# Altium schematic symbol library Connectors.SchLib: 29 symbols
Pins are listed as number, name and electrical type; pins without a type are passive.

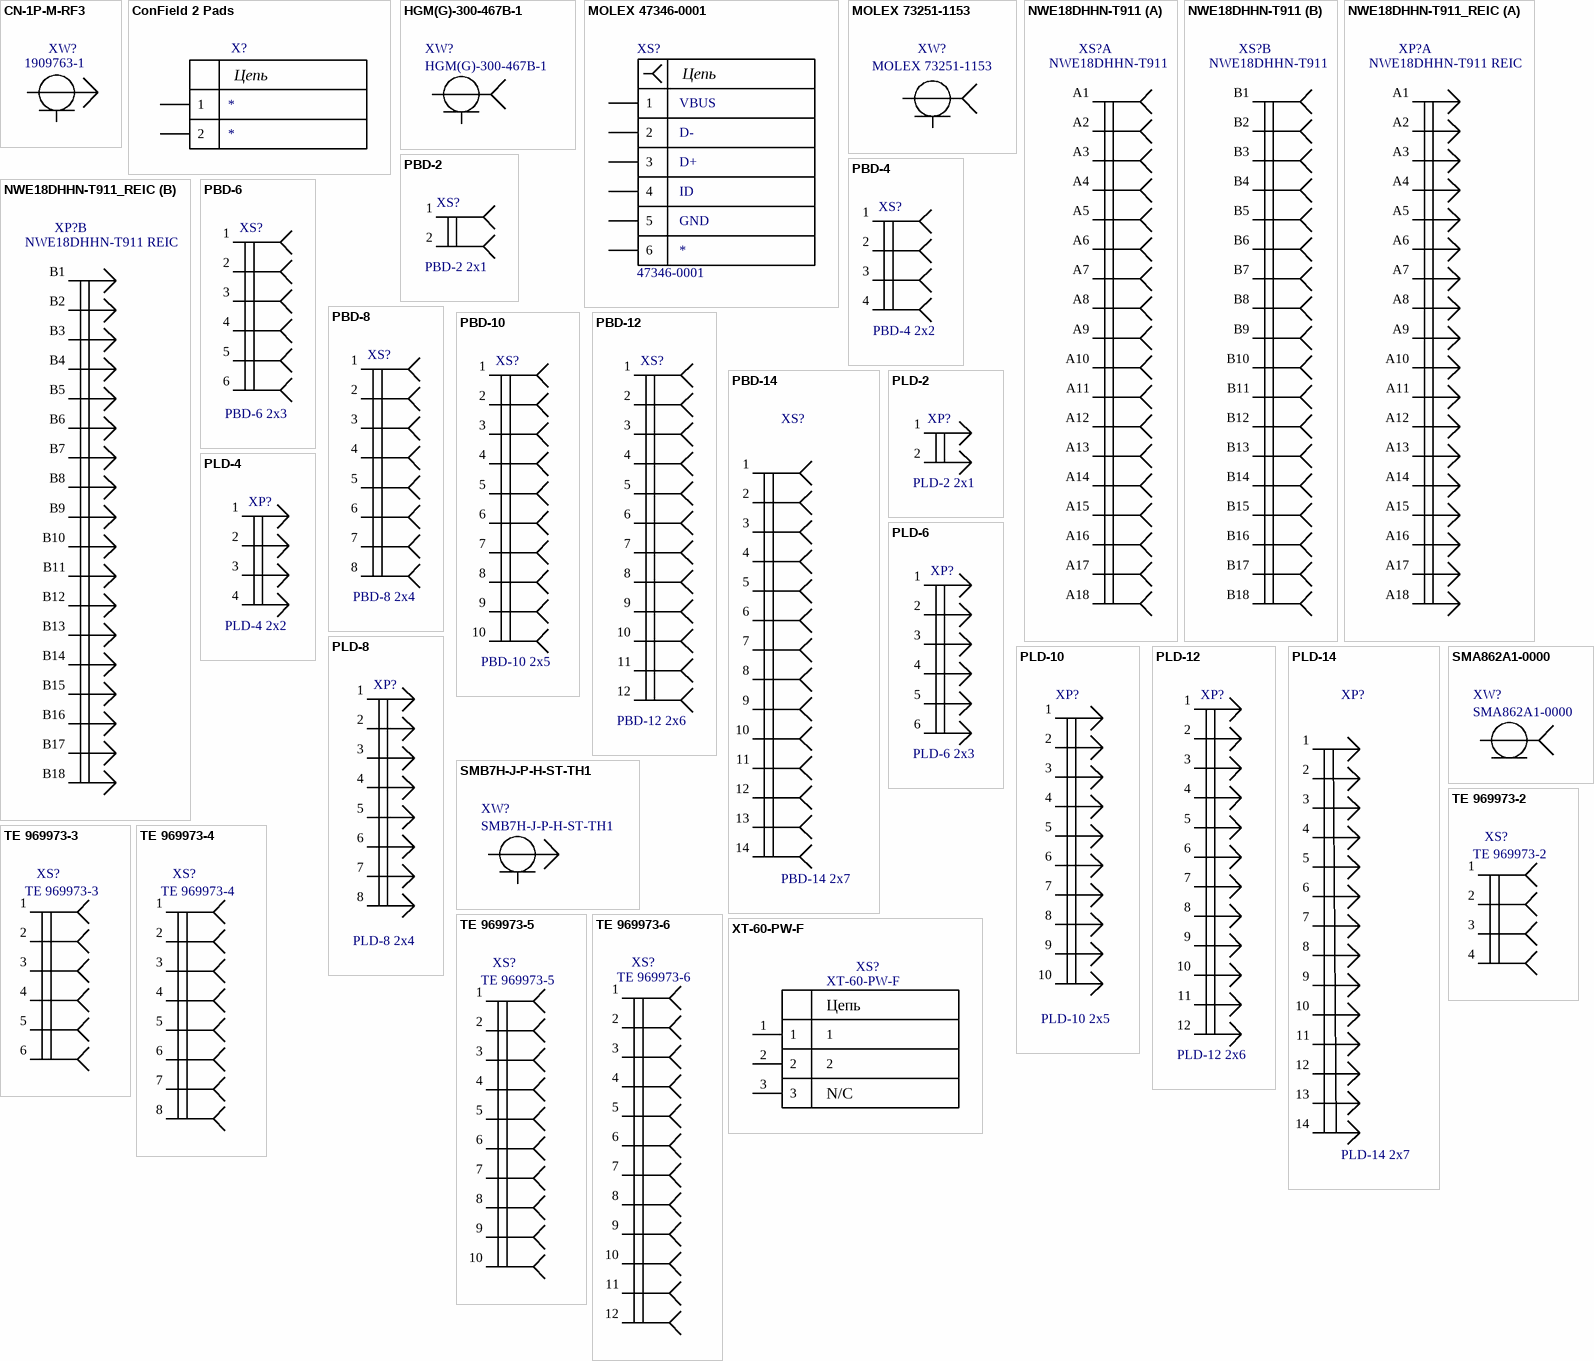
[diagram p0: symbols CN-1P-M-RF3 to XT-60-PW-F]

## CN-1P-M-RF3
designator XW?, comment 1909763-1
Ultra Miniature Coaxial Connector Jack, 60 V, 50 Ohm, -40 to 90 degC, RoHS, Tape and Reel; Manufacturer: TE Connectivity; Gender: Female; PCB Mounting Orientation: Vertical; Body Material: LiquidCrystalPolymer; Case\/Package: SMD/SMT; Impedance: 50Ohm; Max Frequency: 6GHz; Body Plating: Gold; Dielectric Material: Polymer; Orientation: Straight; Mount: SurfaceMount; Length: 3mm; Packaging: TapeandReel; Connector Type: Jack; Lead Free: LeadFree; Package Quantity: 1; Termination: SMD/SMT; Contact Material: CopperAlloy; Fastening Type: Pull; RoHSCompliant: true; Max Operating Temperature: 90degC; Datasheet URL: http://www.te.com/commerce/DocumentDelivery/DDEController?Action=srchrtrv&DocNm=1909763&DocType=Customer+Drawing&DocLang=English; Contact Plating: Gold; Mounting Technology: SurfaceMount; Package Reference: TECO-1909763-1; Insulation Material: Thermoplastic; Min Operating Temperature: -40degC; Manufacturer URL: http://www.te.com/; ELV: Compliant; Datasheet Version: Rev. B2, 11/2015; Radiation Hardening: No; Package Description: 3-Pin Surface Mount Device, Body 2.6 x 2.6 mm; Housing Colour: Beige; Supplier 1: Digi-Key; Supplier Part Number 1: A118077CT-ND; PartNumber: 1909763-1
footprint TECO-1909763-1_V (SMD, 3-Leads, Body 2.6x2.6mm, Height 1.25mm)
pins: 1, 2

## ConField 2 Pads
designator X?  (no BOM)
Contact Field 2 Pads; Net2: *; Net1: *
footprint ConField 2 Pads L1000W300G200 (Contact Field 2 Pads 10mm x 3 mm gap 2 mm)
pins: 1, 2
text: Цепь

## HGM(G)-300-467B-1
designator XW?
Hirose edge SMA 2.92 Press; PartNumber: HGM(G)-300-467B-1
footprint HGM(G)-300-467B-1 (Hirose edge SMA 2.92 Press)
pins: 1, 2

## MOLEX 47346-0001
designator XS?, comment 47346-0001  Net_GND: GND  Net_ID: ID  Net_D+: D+  Net_D-: D-  Net_VBUS: VBUS
Micro-USB B Receptacle with Flange, Bottom Mount, Surface Mount, Lead-Free; Manufacturer: Molex; PartNumber: 47346-0001; ComponentLink1Description: Product Page; ComponentLink1URL: https://www.molex.com/molex/products/part-detail/io_connectors/0473460001; Net_Shield: *
footprint MOLEX 47346-0001 (Molex USB - micro B USB 2.0 Receptacle Connector 5 Position Surface Mount, Right Angle)
pins: 1, 2, 3, 4, 5, SH 6
text: Цепь

## MOLEX 73251-1153
designator XW?
MOLEX 73251-1153 (SMA EDGE); PartNumber: MOLEX 73251-1153; Manufacturer: Molex
footprint MOLEX 73251-1153 (MOLEX 50 Ohms, SMA Jack Receptacle, Edge Mount, .25µm Gold (Au) Plating)
footprint MOLEX 73251-1153 - 0.45pin (MOLEX 50 Ohms, SMA Jack Receptacle, Edge Mount, .25µm Gold (Au) Plating)
footprint MOLEX 73251-1153 - 1.1pin (MOLEX 50 Ohms, SMA Jack Receptacle, Edge Mount, .25µm Gold (Au) Plating)
pins: 1, 2

## NWE18DHHN-T911
designator XS?
PCI EXPRESS, 1mm CC, DIP SOLDER; PartNumber: NWE18DHHN-T911
footprint NWE18DHHN-T911 (PCI-E Connemctor)
part A pins: A1, A2, A3, A4, A5, A6, A7, A8, A9, A10, A11, A12, A13, A14, A15, A16, A17, A18
part B pins: B1, B2, B3, B4, B5, B6, B7, B8, B9, B10, B11, B12, B13, B14, B15, B16, B17, B18

## NWE18DHHN-T911_REIC
designator XP?, comment NWE18DHHN-T911 REIC  (no BOM)
PCI EXPRESS, 1mm CC; PartNumber: NWE18DHHN-T911 REIC
footprint NWE18DHHN-T9_REIC (PCI Edge Connector Recep for NWE18DHHN-T921)
part A pins: A1, A2, A3, A4, A5, A6, A7, A8, A9, A10, A11, A12, A13, A14, A15, A16, A17, A18
part B pins: B1, B2, B3, B4, B5, B6, B7, B8, B9, B10, B11, B12, B13, B14, B15, B16, B17, B18

## PBD-2
designator XS?, comment PBD-2 2x1
Header, Vertical Receptacle, 2.54 mm pitch 2x1; PartNumber: PBD-2 2x1; Net2: *; Net1: *
footprint RHDRV2W45P254_1X2_304X500H500 (Header, Vertical Receptacle, 2.54 mm pitch; 0.45 mm lead width, 2 pins, 2 rows, 1 pin per row, 3.04 mm L X 5.00 mm W X 5.00 mm H body)
pins: 1, 2
1 alternate drawing of the same symbol

## PBD-4
designator XS?, comment PBD-4 2x2
Header, Vertical Receptacle, 2.54 mm pitch 2x2; PartNumber: PBD-4 2x2; Net1: *; Net2: *; Net3: *; Net4: *
footprint RHDRV4W45P254_2X2_558X500H500 (Header, Vertical Receptacle, 2.54 mm pitch; 0.45 mm lead width, 4 pins, 2 rows, 2 pins per row, 5.58 mm L X 5.00 mm W X 5.00 mm H body)
pins: 1, 2, 3, 4
1 alternate drawing of the same symbol

## PBD-6
designator XS?, comment PBD-6 2x3
Header, Vertical Receptacle, 2.54 mm pitch 2x3; PartNumber: PBD-6 2x3; Net1: *; Net2: *; Net3: *; Net4: *; Net5: *; Net6: *
footprint RHDRV6W45P254_3X2_812X500H500 (Header, Vertical Receptacle, 2.54 mm pitch; 0.45 mm lead width, 6 pins, 2 rows, 3 pins per row, 8.12 mm L X 5.00 mm W X 5.00 mm H body)
pins: 1, 2, 3, 4, 5, 6
1 alternate drawing of the same symbol

## PBD-8
designator XS?, comment PBD-8 2x4
Header, Vertical Receptacle, 2.54 mm pitch 2x4; PartNumber: PBD-8 2x4; Net1: *; Net2: *; Net3: *; Net4: *; Net5: *; Net6: *; Net7: *; Net8: *
footprint RHDRV8W45P254_4X2_1066X500H500 (Header, Vertical Receptacle, 2.54 mm pitch; 0.45 mm lead width, 8 pins, 2 rows, 4 pins per row, 10.66 mm L X 5.00 mm W X 5.00 mm H body)
pins: 1, 2, 3, 4, 5, 6, 7, 8
1 alternate drawing of the same symbol

## PBD-10
designator XS?, comment PBD-10 2x5
Header, Vertical Receptacle, 2.54 mm pitch 2x5; PartNumber: PBD-10 2x5; Net1: *; Net2: *; Net3: *; Net4: *; Net5: *; Net9: *; Net10: *; Net6: *; Net8: *; Net7: *
footprint RHDRV10W45P254_5X2_1320X500H500 (Header, Vertical Receptacle, 2.54 mm pitch; 0.45 mm lead width, 10 pins, 2 rows, 5 pins per row, 13.20 mm L X 5.00 mm W X 5.00 mm H body)
pins: 1, 2, 3, 4, 5, 6, 7, 8, 9, 10
1 alternate drawing of the same symbol

## PBD-12
designator XS?, comment PBD-12 2x6
Header, Vertical Receptacle, 2.54 mm pitch 2x6; PartNumber: PBD-12 2x6; Net1: *; Net2: *; Net3: *; Net4: *; Net5: *; Net6: *; Net7: *; Net8: *; Net9: *; Net10: *; Net11: *; Net12: *
footprint RHDRV12W45P254_6X2_1574X500H500 (Header, Vertical Receptacle, 2.54 mm pitch; 0.45 mm lead width, 12 pins, 2 rows, 6 pins per row, 15.74 mm L X 5.00 mm W X 5.00 mm H body)
pins: 1, 2, 3, 4, 5, 6, 7, 8, 9, 10, 11, 12
1 alternate drawing of the same symbol

## PBD-14
designator XS?, comment PBD-14 2x7
Header, Vertical Receptacle, 2.54 mm pitch 2x7; PartNumber: PBD-14 2x7; Net1: *; Net2: *; Net3: *; Net4: *; Net5: *; Net6: *; Net7: *; Net8: *; Net9: *; Net10: *; Net14: *; Net13: *; Net12: *; Net11: *
footprint RHDRV14W64P254_7X2_1778X508H884 (Header, Vertical Receptacle, 2.54 mm pitch; 0.64 mm lead width, 14 pins, 2 rows, 7 pins per row, 17.78 mm L X 5.08 mm W X 8.84 mm H body)
pins: 1, 2, 3, 4, 5, 6, 7, 8, 9, 10, 11, 12, 13, 14
1 alternate drawing of the same symbol

## PLD-2
designator XP?, comment PLD-2 2x1
Header, Vertical, Non-shrouded, 2.54 mm pitch 2x1; PartNumber: PLD-2 2x1; Net1: *; Net2: *
footprint HDRV2W64P254_1X2_254X508H884 (Header, Vertical, 2.54 mm pitch; 0.64 mm lead width, 2 pins, 2 rows, 1 pin per row, 2.54 mm L X 5.08 mm W X 8.84 mm H body)
pins: 1, 2
1 alternate drawing of the same symbol

## PLD-4
designator XP?, comment PLD-4 2x2
Header, Vertical, Non-shrouded, 2.54 mm pitch 2x2; PartNumber: PLD-4 2x2; Net1: *; Net2: *; Net3: *; Net4: *
footprint HDRV4W64P254_2X2_508X508H884 (Header, Vertical, 2.54 mm pitch; 0.64 mm lead width, 4 pins, 2 rows, 2 pins per row, 5.08 mm L X 5.08 mm W X 8.84 mm H body)
pins: 1, 2, 3, 4
1 alternate drawing of the same symbol

## PLD-6
designator XP?, comment PLD-6 2x3
Header, Vertical, Non-shrouded, 2.54 mm pitch 2x3; PartNumber: PLD-6 2x3; Net1: *; Net2: *; Net3: *; Net4: *; Net5: *; Net6: *
footprint HDRV6W64P254_3X2_762X508H884 (Header, Vertical, 2.54 mm pitch; 0.64 mm lead width, 6 pins, 2 rows, 3 pins per row, 7.62 mm L X 5.08 mm W X 8.84 mm H body)
pins: 1, 2, 3, 4, 5, 6
1 alternate drawing of the same symbol

## PLD-8
designator XP?, comment PLD-8 2x4
Header, Vertical, Non-shrouded, 2.54 mm pitch 2x4; PartNumber: PLD-8 2x4; Net1: *; Net2: *; Net3: *; Net4: *; Net5: *; Net6: *; Net7: *; Net8: *
footprint HDRV8W64P254_4X2_1016X508H884 (Header, Vertical, 2.54 mm pitch; 0.64 mm lead width, 8 pins, 2 rows, 4 pins per row, 10.16 mm L X 5.08 mm W X 8.84 mm H body)
pins: 1, 2, 3, 4, 5, 6, 7, 8
1 alternate drawing of the same symbol

## PLD-10
designator XP?, comment PLD-10 2x5
Header, Vertical, Non-shrouded, 2.54 mm pitch 2x5; PartNumber: PLD-10 2x5; Manufacturer: *; Net1: *; Net10: *; Net2: *; Net3: *; Net4: *; Net5: *; Net6: *; Net7: *; Net8: *; Net9: *
footprint HDRV10W64P254_5X2_1270X508H884 (Header, Vertical, 2.54 mm pitch; 0.64 mm lead width, 10 pins, 2 rows, 5 pins per row, 12.70 mm L X 5.08 mm W X 8.84 mm H body)
pins: 1, 2, 3, 4, 5, 6, 7, 8, 9, 10
1 alternate drawing of the same symbol

## PLD-12
designator XP?, comment PLD-12 2x6
Header, Vertical, Non-shrouded, 2.54 mm pitch 2x6; PartNumber: PLD-12 2x6; Net1: *; Net2: *; Net3: *; Net4: *; Net5: *; Net6: *; Net7: *; Net8: *; Net9: *; Net10: *; Net11: *; Net12: *
footprint HDRV12W64P254_6X2_1524X508H884 (Header, Vertical, 2.54 mm pitch; 0.64 mm lead width, 12 pins, 2 rows, 6 pins per row, 15.24 mm L X 5.08 mm W X 8.84 mm H body)
pins: 1, 2, 3, 4, 5, 6, 7, 8, 9, 10, 11, 12
1 alternate drawing of the same symbol

## PLD-14
designator XP?, comment PLD-14 2x7
Header, Vertical, Non-shrouded, 2.54 mm pitch 2x7; PartNumber: PLD-14 2x7; Net2: *; Net3: *; Net4: *; Net5: *; Net6: *; Net7: *; Net8: *; Net9: *; Net10: *; Net11: *; Net13: *; Net12: *; Net14: *; Net1: *
footprint HDRV14W64P254_7X2_1778X508H884 (Header, Vertical, 2.54 mm pitch; 0.64 mm lead width, 14 pins, 2 rows, 7 pins per row, 17.78 mm L X 5.08 mm W X 8.84 mm H body)
pins: 1, 2, 3, 4, 5, 6, 7, 8, 9, 10, 11, 12, 13, 14
1 alternate drawing of the same symbol

## SMA862A1-0000
designator XW?
SMA Jack For Panel Receptacle 50Ohm JYEBAO; PartNumber: SMA862A1-0000
footprint SMA862A1-0000 (SMA Jack For Panel Receptacle 50Ohm 2 Holes)
pins: 1

## SMB7H-J-P-H-ST-TH1
designator XW?
Samtec SMB 75Ohm Tru Jack; PartNumber: SMB7H-J-P-H-ST-TH1; Manufacturer: Samtec; ComponentLink1Description: Link; ComponentLink1URL: https://www.samtec.com/products/smb7h-th
footprint SMB7H-J-P-H-ST-TH1 (Samtec 75? True 75™ SMB Jack, Through-hole)
pins: 1, 2

## TE 969973-2
designator XS?
Header, Vertical, Receptacle, 2.54 mm pitch 2x2; PartNumber: TE 969973-2
footprint TE 969973-2 (2x2P HV100 REC DOUBLE ROW)
footprint TE 969973-2 BACK (2x2P HV100 REC DOUBLE ROW WITH HOLES)
pins: 1, 2, 3, 4

## TE 969973-3
designator XS?
Header, Vertical, Receptacle, 2.54 mm pitch 2x3; PartNumber: TE 969973-3
footprint TE 969973-3 (2x3P HV100 REC DOUBLE ROW)
footprint TE 969973-3 BACK (2x3P HV100 REC DOUBLE ROW WITH HOLES)
pins: 1, 2, 3, 4, 5, 6

## TE 969973-4
designator XS?
Header, Vertical, Receptacle, 2.54 mm pitch 2x4; PartNumber: TE 969973-4
footprint TE 969973-4 (2x4P HV100 REC DOUBLE ROW)
footprint TE 969973-4 BACK (2x4P HV100 REC DOUBLE ROW WITH HOLES)
pins: 1, 2, 3, 4, 5, 6, 7, 8

## TE 969973-5
designator XS?
Header, Vertical, Receptacle, 2.54 mm pitch 2x5; PartNumber: TE 969973-5
footprint TE 969973-5 (2x5P HV100 REC DOUBLE ROW)
footprint TE 969973-5 BACK (2x5P HV100 REC DOUBLE ROW WITH HOLES)
pins: 1, 2, 3, 4, 5, 6, 7, 8, 9, 10

## TE 969973-6
designator XS?
Header, Vertical, Receptacle, 2.54 mm pitch 2x6; PartNumber: TE 969973-6
footprint TE 969973-6 (2x6P HV100 REC DOUBLE ROW)
footprint TE 969973-6 BACK (2x6P HV100 REC DOUBLE ROW WITH HOLES)
pins: 1, 2, 3, 4, 5, 6, 7, 8, 9, 10, 11, 12

## XT-60-PW-F
designator XS?  Net2: 2  Net1: 1
Header, Right-angle, 2x1; Manufactorer: Changzhou Amass Electronics CO.LTD.; PartNumber: XT-60-PW-F; ComponentLink1Description: DataSheet; ComponentLink1URL: https://www.tme.eu/ru/Document/9b8d0c5eb7094295f3d3112c214d3ade/XT60PW%20SPEC.pdf; Category: Connector
footprint XT-60-PW-F
pins: 1, 2, 3
text: Цепь; N/C